# EAGLE library part AD8336ACPZ-R7 (library Amplifier-Sonar-Prototype-LBR)
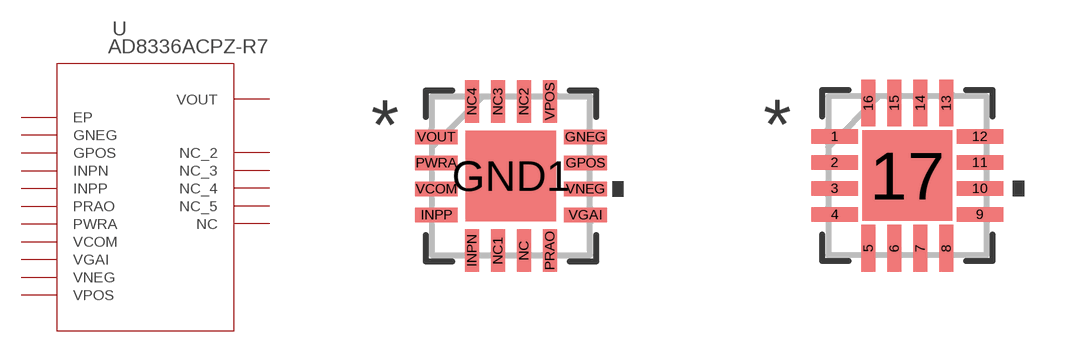
[diagram p0: symbol with the pads of CP_16_4; footprints CP_16_4, CP_16_4-M]

Designator prefix U

## AD8336ACPZ-R7 (MANUFACTURER_PART_NUMBER: AD8336ACPZR7; VENDOR: Analog Devices Inc)  [CP_16_4]
GND1  EP  pas
GNEG  GNEG  pas
GPOS  GPOS  pas
INPN  INPN  pas
INPP  INPP  pas
NC  NC  pas
NC1  NC_2  pas
NC2  NC_3  pas
NC3  NC_4  pas
NC4  NC_5  pas
PRAO  PRAO  pas
PWRA  PWRA  pas
VCOM  VCOM  pas
VGAI  VGAI  pas
VNEG  VNEG  pas
VOUT  VOUT  pas
VPOS  VPOS  pas

## AD8336ACPZ-R7CP_16_4-M (MANUFACTURER_PART_NUMBER: AD8336ACPZR7; VENDOR: Analog Devices Inc)  [CP_16_4-M]
1  VOUT  pas
2  PWRA  pas
3  VCOM  pas
4  INPP  pas
5  INPN  pas
6  NC_2  pas
7  NC_3  pas
8  PRAO  pas
9  VGAI  pas
10  VNEG  pas
11  GPOS  pas
12  GNEG  pas
13  VPOS  pas
14  NC_4  pas
15  NC_5  pas
16  NC  pas
17  EP  pas

## AD8336ACPZ-R7CP_16_4-L (MANUFACTURER_PART_NUMBER: AD8336ACPZR7; VENDOR: Analog Devices Inc)  [CP_16_4-L]
Pads as for CP_16_4-M

## Footprint CP_16_4 (pad centres in mm)
smd 2.261 x 2.261: GND1 0,0
smd 1.067 x 0.356: GNEG 1.865,0.975; GPOS 1.865,0.325; INPP -1.865,-0.975; PWRA -1.865,0.325; VCOM -1.865,-0.325; VGAI 1.865,-0.975; VNEG 1.865,-0.325; VOUT -1.865,0.975
smd 0.356 x 1.067: INPN -0.975,-1.865; NC 0.325,-1.865; NC1 -0.325,-1.865; NC2 0.325,1.865; NC3 -0.325,1.865; NC4 -0.975,1.865; PRAO 0.975,-1.865; VPOS 0.975,1.865

## Footprint CP_16_4-M (pad centres in mm)
smd 1.168 x 0.356: 1 -1.816,0.975; 2 -1.816,0.325; 3 -1.816,-0.325; 4 -1.816,-0.975; 9 1.816,-0.975; 10 1.816,-0.325; 11 1.816,0.325; 12 1.816,0.975
smd 0.356 x 1.168: 5 -0.975,-1.816; 6 -0.325,-1.816; 7 0.325,-1.816; 8 0.975,-1.816; 13 0.975,1.816; 14 0.325,1.816; 15 -0.325,1.816; 16 -0.975,1.816
smd 2.261 x 2.261: 17 0,0

## Footprint CP_16_4-L (pad centres in mm)
smd 0.965 x 0.356: 1 -1.714,0.975; 2 -1.714,0.325; 3 -1.714,-0.325; 4 -1.714,-0.975; 9 1.714,-0.975; 10 1.714,-0.325; 11 1.714,0.325; 12 1.714,0.975
smd 0.356 x 0.965: 5 -0.975,-1.714; 6 -0.325,-1.714; 7 0.325,-1.714; 8 0.975,-1.714; 13 0.975,1.714; 14 0.325,1.714; 15 -0.325,1.714; 16 -0.975,1.714
smd 2.261 x 2.261: 17 0,0